# EAGLE library part MICROSD (library EXCISS)
104031-0811 1.10mm Pitch microSD Memory Card Connector, Surface Mount, Push-Pull Type, 1.42mm Height, with Detect Switch Links Datasheet <http://www.molex.com/pdm_docs/sd/740991003_sd.pdf> Product website <http://www.molex.com/molex/products/datasheet.jsp?part=active/1040310811_MEMORY_CARD_SOCKET.xml>
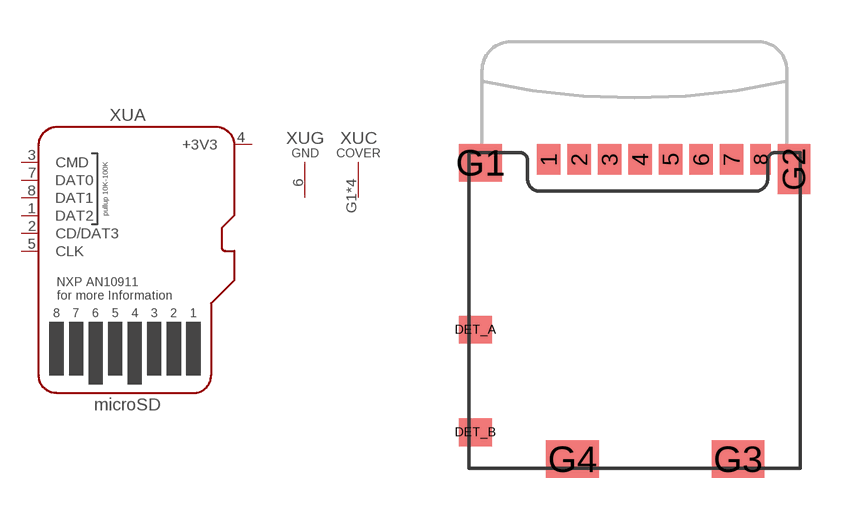
[diagram p2: symbol with the pads of MICROSD_MOLEX_104031; footprint MICROSD_MOLEX_104031]

Designator prefix XU; gates A=MICROSD G=POWER_GND C=COVER

## MICROSDMOLEX_104031 (OC_MOUSER: 538-104031-0811)  [MICROSD_MOLEX_104031]
1  A:DAT2
2  A:CD/DAT3
3  A:CMD
4  A:+3V3  pwr
5  A:CLK
6  G:GND  pwr
7  A:DAT0
8  A:DAT1
G1  C:GND  pwr
G2  C:GND  pwr
G3  C:GND  pwr
G4  C:GND  pwr

## Footprint MICROSD_MOLEX_104031 (pad centres in mm)
smd 0.85 x 1.1: 1 -3.105,-0.85; 2 -2.005,-0.85; 3 -0.905,-0.85; 4 0.195,-0.85; 5 1.295,-0.85; 6 2.395,-0.85; 7 3.495,-0.85
smd 0.75 x 1.1: 8 4.545,-0.85
smd 1.2 x 1: DET_A -5.74,-7; DET_B -5.74,-10.7
smd 1.55 x 1.35: G1 -5.565,-0.975
smd 1.17 x 1.8: G2 5.755,-1.2
smd 1.9 x 1.35: G3 3.73,-11.675; G4 -2.24,-11.675